# Altium footprint library IR-Sensor.PcbLib: 24 footprints (part 2 of 2)
Each footprint in its own frame and in the unit in brackets; x right, y up, seen from the top. Pads: shape width x height; smd on the part's side, far side on the other; paste and mask are expansions set on the pad; w line width, h text height; cw(c..) or ccw(c..) is an arc to the next point about the centre after c.
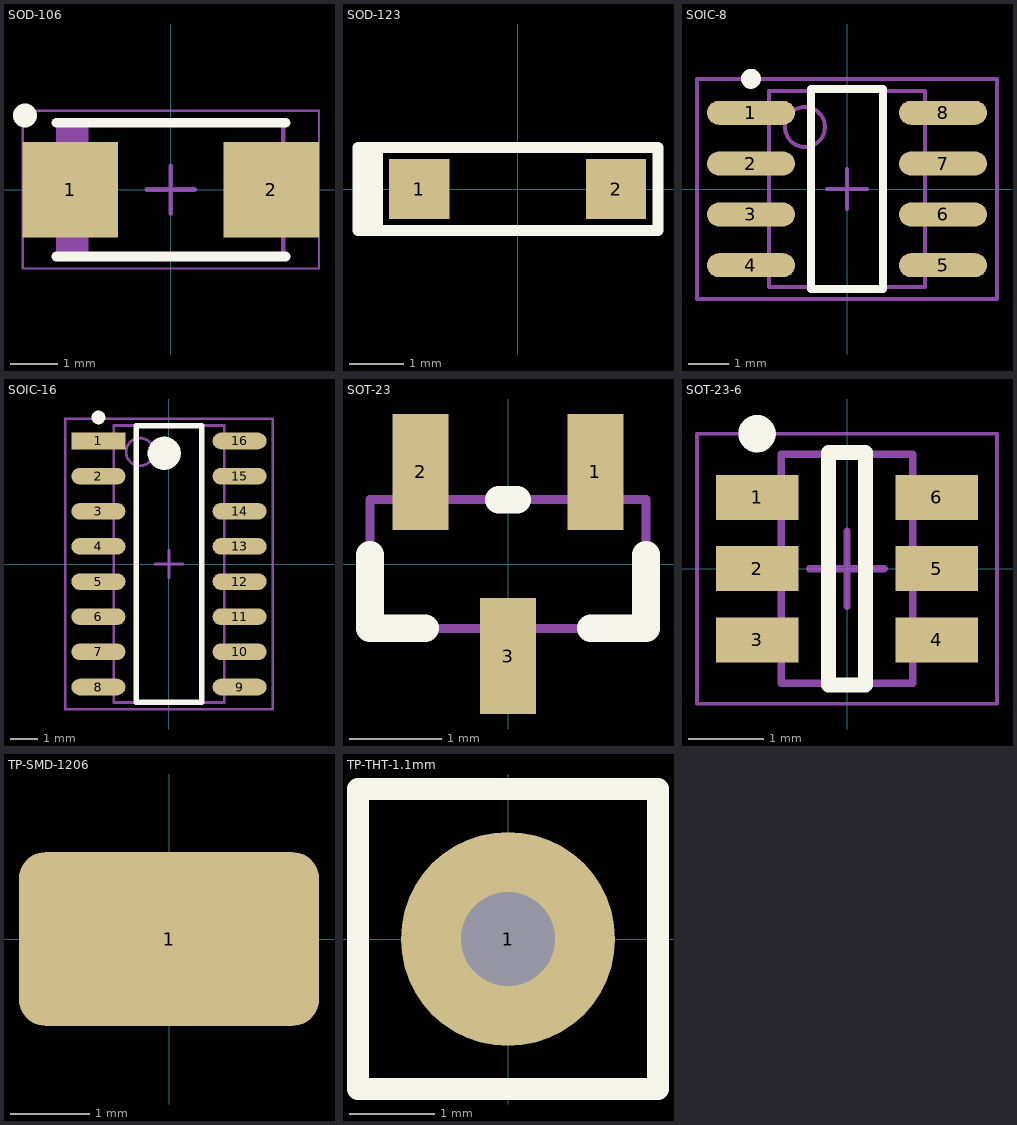
[diagram p1: the footprints below, top view; thin cyan lines are the x and y axes]

## SOD-106 [mm]
pads (2):
  rect 2x2 smd: 1(-2.1,0) 2(2.1,0)
Top Overlay:
  circle w0.25: c-3.05,1.55 r0.125
  lines w0.2: -2.4,-1.4 2.4,-1.4 ; -2.4,1.4 2.4,1.4
Mechanical 13:
  rectangle: -2.35,-1.4 -1.718,1.4
  lines w0.1: -2.35,-1.4 -2.35,1.4 2.35,1.4 2.35,-1.4 -2.35,-1.4
Mechanical 15:
  lines w0.05: -3.1,-1.65 -3.1,1.65 3.1,1.65 3.1,-1.65 -3.1,-1.65
  lines w0.1: -0.5,0 0.5,0 ; 0,-0.5 0,0.5
3D body "27673.stp": height 2, standoff 0, extent -2.475,-1.336 2.525,1.264

## SOD-123 [mm] "SOD-123, 2 leads, plastic surface-mounted package"
pads (2):
  rect 1.1x1.1 smd: 1(-1.8,0) 2(1.8,0)
Top Overlay:
  lines w0.2: -2.667,0.762 -2.921,0.762 -2.921,-0.762 -2.438,-0.762 -2.743,-0.762 -2.743,0.762 -2.565,0.762 ; -2.565,0.762 2.565,0.762 2.565,-0.762 -2.565,-0.762 -2.565,0.762
3D body "User Library-SOD3716X14.step": height 1.35, standoff 0, extent -1.85,-0.775 1.85,0.775

## SOIC-8 [mm]
pads (8):
  oval 2.2x0.6 smd: 1(-2.4,1.905) 2(-2.4,0.635) 3(-2.4,-0.635) 4(-2.4,-1.905) 5(2.4,-1.905) 6(2.4,-0.635) 7(2.4,0.635) 8(2.4,1.905)
Top Overlay:
  circle w0.25: c-2.4,2.755 r0.125
  lines w0.2: -0.9,-2.5 0.9,-2.5 0.9,2.5 -0.9,2.5 -0.9,-2.5
Mechanical 13:
  circle w0.1: c-1.05,1.55 r0.5
  lines w0.1: -1.95,-2.45 1.95,-2.45 1.95,2.45 -1.95,2.45 -1.95,-2.45
Mechanical 15:
  lines w0.1: -0.5,0 0.5,0 ; 0,-0.5 0,0.5 ; -3.75,-2.75 3.75,-2.75 3.75,2.75 -3.75,2.75 -3.75,-2.75
3D body "SO8.step": height 1.76, standoff -0.01, extent -3.068,-2.445 3.069,2.445

## SOIC-16 [mm]
pads (16):
  rect 1.95x0.6 smd: 1(-2.55,4.445)
  oval 1.95x0.6 smd: 2(-2.55,3.175) 3(-2.55,1.905) 4(-2.55,0.635) 5(-2.55,-0.635) 6(-2.55,-1.905) 7(-2.55,-3.175) 8(-2.55,-4.445) 9(2.55,-4.445) 10(2.55,-3.175) 11(2.55,-1.905) 12(2.55,-0.635) 13(2.55,0.635) 14(2.55,1.905) 15(2.55,3.175) 16(2.55,4.445)
Top Overlay:
  circle w0.25: c-2.55,5.295 r0.125
  circle w0.6: c-0.175,4 r0.3
  lines w0.2: -1.175,-5 -1.175,5 1.175,5 1.175,-5 -1.175,-5
Mechanical 13:
  circle w0.1: c-1.05,4.05 r0.5
  lines w0.1: -2,-5 -2,5 2,5 2,-5 -2,-5
Mechanical 15:
  lines w0.1: -0.5,0 0.5,0 ; 0,-0.5 0,0.5 ; -3.75,-5.25 -3.75,5.25 3.75,5.25 3.75,-5.25 -3.75,-5.25
3D body "SO16.step": height 1.73, standoff -0.03, extent -3.068,-4.985 3.069,4.985

## SOT-23 [mm]
pads (3):
  rect 0.61x1.26 smd paste-0.05: 1(0.95,1) 2(-0.95,1) 3(0,-1)
Top Overlay:
  lines w0.3: -1.5,0.1 -1.5,-0.7 -0.9,-0.7 ; -0.1,0.7 0.1,0.7 ; 0.9,-0.7 1.5,-0.7 1.5,0.1
Mechanical 13:
  lines w0.1: -1.5,-0.7 1.5,-0.7 1.5,0.7 -1.5,0.7 -1.5,-0.7
3D body "FAIRCHILD-SOT-23 3L.step": height 0.98, standoff -0.01, extent -1.448,-1.21 1.448,1.21

## SOT-23-6 [mm]
pads (6):
  rect 1.1x0.6 smd: 1(-1.2,0.95) 2(-1.2,0) 3(-1.2,-0.95) 4(1.2,-0.95) 5(1.2,0) 6(1.2,0.95)
Top Overlay:
  circle w0.25: c-1.2,1.8 r0.125
  lines w0.2: -0.25,-1.55 0.25,-1.55 0.25,1.55 -0.25,1.55 -0.25,-1.55
Mechanical 13:
  lines w0.1: -0.875,-1.525 -0.875,1.525 0.875,1.525 0.875,-1.525 -0.875,-1.525
Mechanical 15:
  lines w0.05: -2,-1.8 -2,1.8 2,1.8 2,-1.8 -2,-1.8
  lines w0.1: -0.5,0 0.5,0 ; 0,-0.5 0,0.5
3D body "User Library-SOT23-6-2.STEP": height 1.45, standoff 0, extent -1.4,-1.45 1.4,1.45

## TP-SMD-1206 [mm]
pads (1):
  rrect30% 3.8x2.2 smd: 1(0,0)
3D body "RCW_1206.stp": height 2.22, standoff 0, extent -1.6,-0.812 1.6,0.813

## TP-THT-1.1mm [mm]
pads (1):
  round 2.5 hole 1.1: 1(0,0)
Top Overlay:
  lines w0.254: -1.75,-1.75 -1.75,1.75 1.75,1.75 1.75,-1.75 -1.75,-1.75
3D body "User Library-Keystone 4952.step": height 8.3, standoff -3, extent -1.5,-0.32 1.5,0.32